# Altium footprint library SOIC127P780X200-8N.PcbLib: 1 footprints
Each footprint in its own frame and in the unit in brackets; x right, y up, seen from the top. Pads: shape width x height; smd on the part's side, far side on the other; paste and mask are expansions set on the pad; w line width, h text height; cw(c..) or ccw(c..) is an arc to the next point about the centre after c.
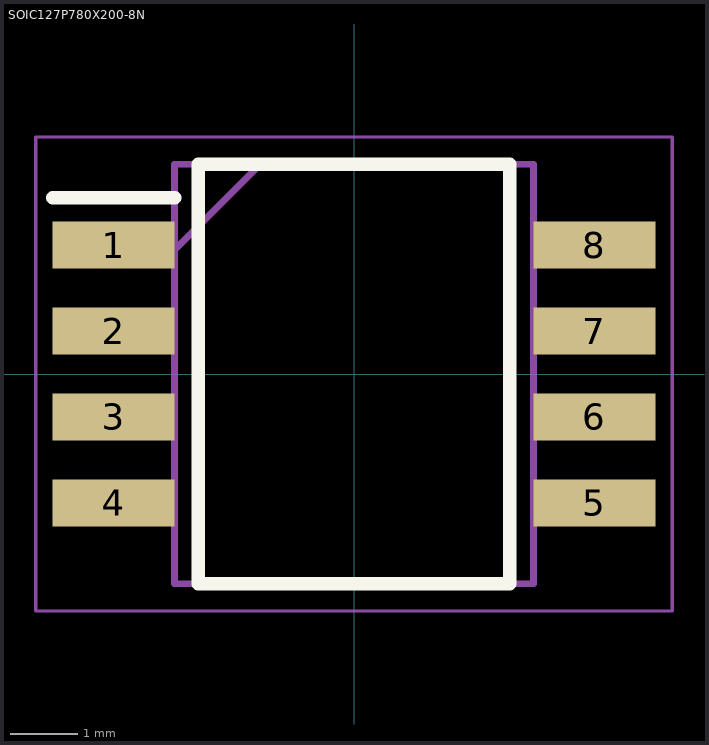
[diagram p0: the footprint, top view; thin cyan lines are the x and y axes]

## SOIC127P780X200-8N [mm]
pads (8):
  rect 1.8x0.7 smd: 1(-3.55,1.905) 2(-3.55,0.635) 3(-3.55,-0.635) 4(-3.55,-1.905) 5(3.55,-1.905) 6(3.55,-0.635) 7(3.55,0.635) 8(3.55,1.905)
Top Overlay:
  lines w0.2: -4.45,2.605 -2.65,2.605 ; -2.3,-3.1 2.3,-3.1 2.3,3.1 -2.3,3.1 -2.3,-3.1
Mechanical 15:
  lines w0.1: -2.65,1.83 -1.38,3.1 ; -2.65,-3.1 2.65,-3.1 2.65,3.1 -2.65,3.1 -2.65,-3.1
Mechanical 20:
  lines w0.05: -4.7,-3.5 4.7,-3.5 4.7,3.5 -4.7,3.5 -4.7,-3.5
3D body "OP-07DPS.stp": height 5.8, standoff -4.65, extent -10,-3.376 10,3.376